# Altium footprint library CYPCBLIB.PcbLib: 185 footprints (part 8 of 12)
Each footprint in its own frame and in the unit in brackets; x right, y up, seen from the top. Pads: shape width x height; smd on the part's side, far side on the other; paste and mask are expansions set on the pad; w line width, h text height; cw(c..) or ccw(c..) is an arc to the next point about the centre after c.
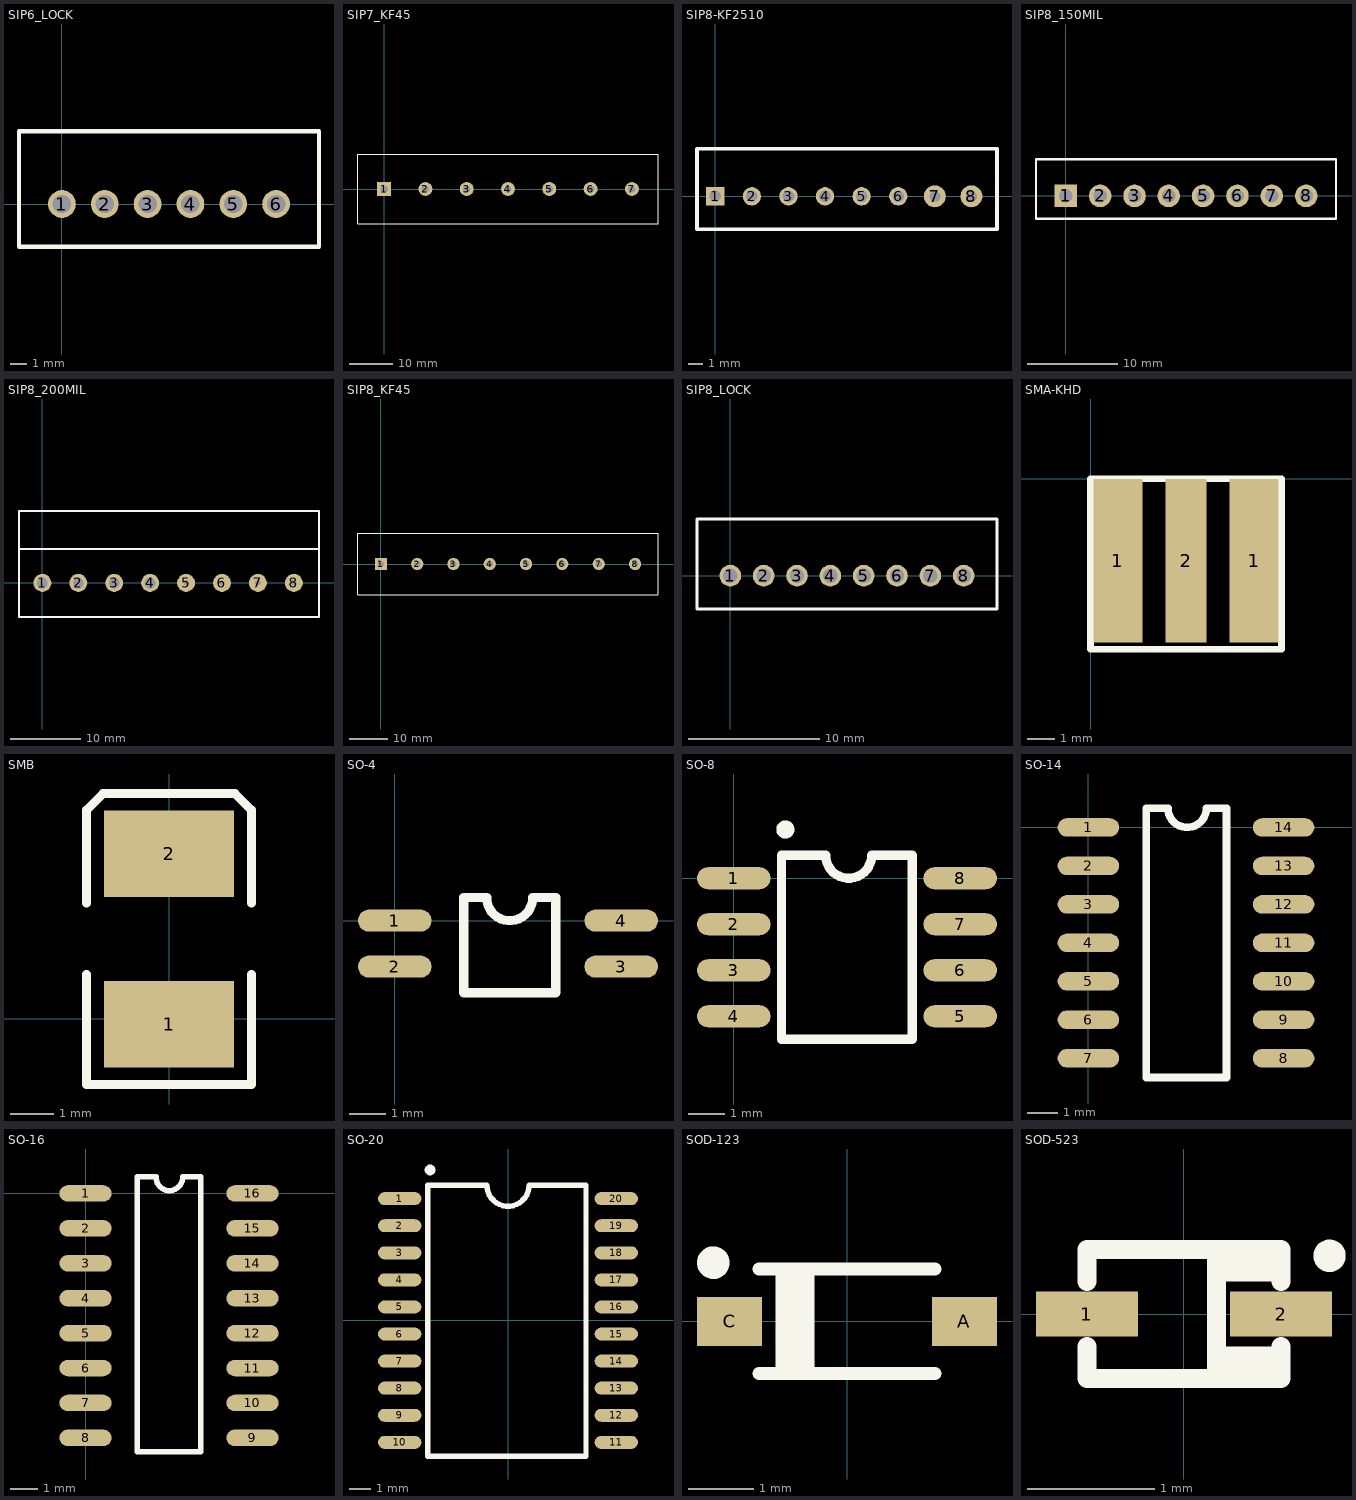
[diagram p7: the footprints below, top view; thin cyan lines are the x and y axes]

## SIP6_LOCK [mil]
pads (6):
  round 65 hole 43: 1(0,0) 2(100,0) 3(200,0) 4(300,0) 5(400,0) 6(500,0)
TopOverlay:
  lines w10: -100,-100 -100,170 600,170 600,-100 -100,-100

## SIP7_KF45 [mm]
pads (7):
  rect 3.2x3.2 hole 1.7: 1(0,0)
  round 3.2 hole 1.7: 2(9.5,0) 3(19,0) 4(28.5,0) 5(38,0) 6(47.5,0) 7(57,0)
TopOverlay:
  lines w0.254: -6,-8 63,-8 63,8 -6,8 -6,-8

## SIP8-KF2510 [mil]
pads (8):
  rect 50x50 hole 32: 1(0,0)
  round 50 hole 32: 2(100,0) 3(200,0) 4(300,0) 5(400,0) 6(500,0)
  round 60 hole 30: 7(600,0) 8(700,0)
TopOverlay:
  lines w10: -50,-90 50,-90 770,-90 770,130 -50,130 -50,-90

## SIP8_150MIL [mm]
pads (8):
  rect 2.5x2.5 hole 1.5: 1(0,0)
  round 2.5 hole 1.5: 2(3.835,0) 3(7.645,0) 4(11.43,0) 5(15.24,0) 6(19.05,0) 7(22.86,0) 8(26.67,0)
TopOverlay:
  lines w0.254: -3.277,-2.54 -3.277,4.064 29.972,4.064 29.972,-2.54 -3.277,-2.54

## SIP8_200MIL [mil]
pads (8):
  round 100 hole 60: 1(0,0) 2(200,0) 3(400,0) 4(600,0)
  round 100 hole 30: 5(800,0) 6(1000,0) 7(1200,0) 8(1400,0)
TopOverlay:
  lines w10: 1539.45,400.55 -130,400.55 -130,189 ; 1540,188.45 1540,400 ; -130,189 1540,189 1540,-190 -130,-190 -130,189

## SIP8_KF45 [mm]
pads (8):
  rect 3.2x3.2 hole 1.7: 1(0,0)
  round 3.2 hole 1.7: 2(9.5,0) 3(19,0) 4(28.5,0) 5(38,0) 6(47.5,0) 7(57.05,0) 8(66.55,0)
TopOverlay:
  lines w0.254: 72.5,-8 -6,-8 -6,8 72.5,8 ; 72.55,-8 72.55,8

## SIP8_LOCK [mil]
pads (8):
  round 65 hole 43: 1(0,0) 2(100,0) 3(200,0) 4(300,0) 5(400,0) 6(500,0) 7(600,0) 8(700,0)
TopOverlay:
  lines w10: -100,-100 800,-100 800,170 -100,170 -100,-100

## SMA-KHD [mm]
pads (3):
  rect 1.8x6 smd: 1(1,-3) 1(6,-3)
  rect 1.5x6 smd: 2(3.5,-3)
TopOverlay:
  lines w0.254: 0,-6.25 0,0 7,0 7,-6.25 0,-6.25

## SMB [mm]
pads (2):
  rect 3x2 smd: 1(0,-0.127) 2(0,3.81)
TopOverlay:
  lines w0.203: -1.905,1.018 -1.905,-1.524 1.905,-1.524 1.905,1.018 ; -1.905,2.667 -1.905,4.826 -1.524,5.207 1.524,5.207 1.905,4.826 1.905,2.667

## SO-4 [mil]
pads (4):
  oval 80x24 smd: 1(0,0) 2(0,-50) 3(246.18,-50) 4(246.18,0)
TopOverlay:
  lines w10: 74.96,-78.54 74.96,25 99.96,25 ccw(c124.96,25) 149.96,25 174.96,25 174.96,-78.54 74.96,-78.54

## SO-8 [mil]
pads (8):
  oval 80x24 smd: 1(0,0) 2(0,-50) 3(0,-100) 4(0,-150) 5(246.18,-150) 6(246.18,-100) 7(246.18,-50) 8(246.18,0)
TopOverlay:
  circle w9.84: c56.08,53 r4.92
  lines w10: 52,-175 194,-175 194,25 149.96,25 cw(c124.96,25) 99.96,25 52,25 52,-175

## SO-14 [mil]
pads (14):
  oval 80x24 smd: 1(0,0) 2(0,-50) 3(0,-100) 4(0,-150) 5(0,-200) 6(0,-250) 7(0,-300) 8(253.66,-300) 9(253.66,-250) 10(253.66,-200) 11(253.66,-150) 12(253.66,-100) 13(253.66,-50) 14(253.66,0)
TopOverlay:
  lines w10: 74.96,-325 74.96,25 103.35,25 ccw(c128.35,25) 153.35,25 179.53,25 179.53,-325 74.96,-325

## SO-16 [mm]
pads (16):
  oval 1.9x0.6 smd: 1(0,0) 2(0,-1.27) 3(0,-2.54) 4(0,-3.81) 5(0,-5.08) 6(0,-6.35) 7(0,-7.62) 8(0,-8.89) 9(6.072,-8.89) 10(6.072,-7.62) 11(6.072,-6.35) 12(6.072,-5.08) 13(6.072,-3.81) 14(6.072,-2.54) 15(6.072,-1.27) 16(6.072,0)
TopOverlay:
  lines w0.2: 1.88,-9.39 4.191,-9.39 4.191,0.61 3.531,0.61 cw(c3.048,0.588) 2.565,0.609 1.88,0.61 1.88,-9.39

## SO-20 [mil]
pads (20):
  oval 80x24 smd: 1(-200,225) 2(-200,175) 3(-200,125) 4(-200,75) 5(-200,25) 6(-200,-25) 7(-200,-75) 8(-200,-125) 9(-200,-175) 10(-200,-225) 11(200,-225) 12(200,-175) 13(200,-125) 14(200,-75) 15(200,-25) 16(200,25) 17(200,75) 18(200,125) 19(200,175) 20(200,225)
TopOverlay:
  circle w9.84: c-143.92,278 r4.92
  lines w10: -148,-251 144,-251 144,250 39,250 cw(c0,250) -39,250 -148,250 -148,-251

## SOD-123 [mm]
pads (2):
  rect 1x0.75 smd: A(1.8,0) C(-1.8,0)
TopOverlay:
  circle w0.25: c-2.05,0.9 r0.125
  lines w0.2: -1.35,-0.8 1.35,-0.8 ; -1.35,0.8 1.35,0.8 ; -1,-0.8 -1,0.8 ; -0.8,-0.8 -0.8,0.8 ; -0.6,-0.8 -0.6,0.8

## SOD-523 [mm]
pads (2):
  rect 0.8x0.35 smd: 1(-0.762,0) 2(0.762,0)
TopOverlay:
  circle w0.152: c1.143,0.457 r0.051
  rectangle: 0.255,0.254 0.763,0.508
  rectangle: 0.255,-0.508 0.763,-0.254
  lines w0.15: -0.762,-0.254 -0.762,-0.508 0.762,-0.508 0.762,-0.254 ; -0.762,0.254 -0.762,0.508 0.762,0.508 0.762,0.254 ; 0.254,-0.508 0.254,0.508